# EAGLE library part HFBR25XX (library Zoli2_2015-02-22)
Opto receiver
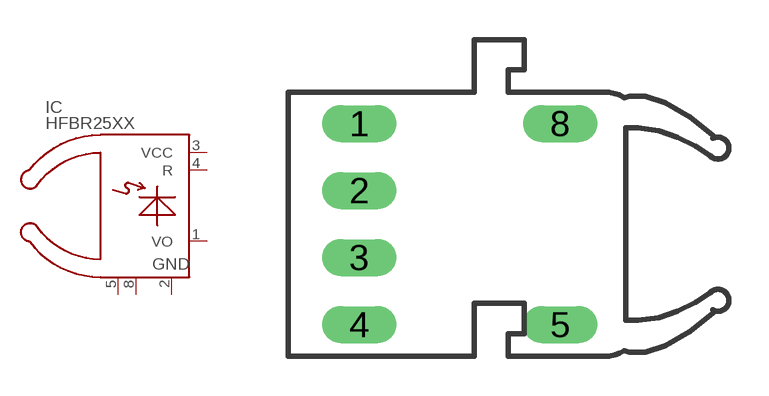
[diagram p37: symbol with the pads of HFBR25XX; footprint HFBR25XX]

Designator prefix IC

## HFBR25XX  [HFBR25XX]
1  VO  out
2  GND  pas
3  VCC  pas
4  R  pas
5  5  pas
8  8  pas

## Footprint HFBR25XX (pad centres in mm)
OPTO RECEIVER
drill 0.9 long: 1 0,3.81; 2 0,1.27; 3 0,-1.27; 4 0,-3.81; 5 7.62,-3.81; 8 7.62,3.81